# Altium schematic symbol library A767EB226M1VLAE050.SchLib: 1 symbol
Pins are listed as number, name and electrical type; pins without a type are passive.

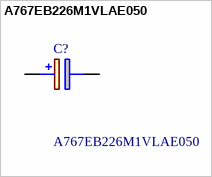
[diagram p0: symbol A767EB226M1VLAE050]

## A767EB226M1VLAE050
designator C?
A767, Aluminum, Polymer Aluminum, 22 uF, 20%, 35 VDC, -55/+105C, 105C, -55C, 105C, 2,000 Hrs, 50 mOhms, 300 uA, 6.3mm, 5.7mm, 1000; Manufacturer_Name: KEMET; Geometry.Height: 6mm; Manufacturer_Part_Number: A767EB226M1VLAE050; Mouser Part Number: 80-A767EB226M1VLAE50; Mouser Price/Stock: https://www.mouser.co.uk/ProductDetail/KEMET/A767EB226M1VLAE050?qs=M6jHmRuQorUGRyLC6r3dXQ%3D%3D; Arrow Part Number: A767EB226M1VLAE050; Arrow Price/Stock: null?region=nac; Datasheet Link: https://search.kemet.com/component-documentation/download/specsheet/A767EB226M1VLAE050
footprint CAPAE660X600N
pins: 1 +, 2 -